# Altium footprint library PcbLib.PcbLib: 71 footprints (part 6 of 6)
Each footprint in its own frame and in the unit in brackets; x right, y up, seen from the top. Pads: shape width x height; smd on the part's side, far side on the other; paste and mask are expansions set on the pad; w line width, h text height; cw(c..) or ccw(c..) is an arc to the next point about the centre after c.
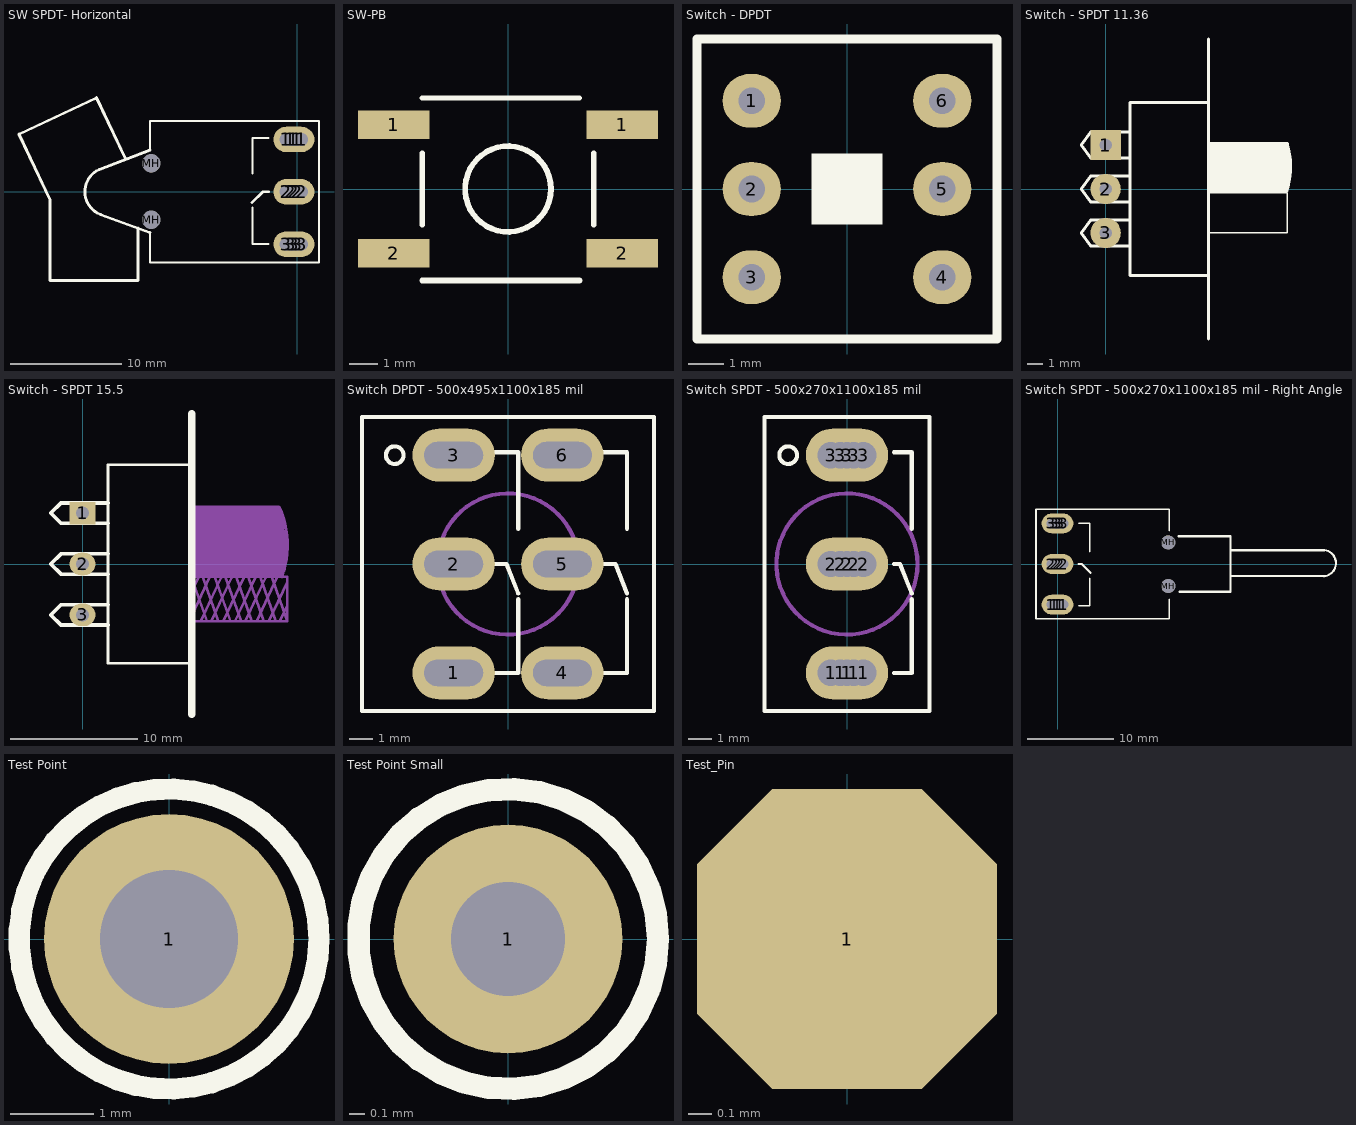
[diagram p5: the footprints below, top view; thin cyan lines are the x and y axes]

## SW SPDT- Horizontal [mil]
pads (17):
  round 90 hole 45: 1(-39.37,185.04) 1(-23.62,185.04) 1(0,185.04) 1(15.75,185.04) 2(-39.37,0) 2(-23.62,0) 2(0,0) 2(15.75,0) 3(-39.37,-185.04) 3(-23.62,-185.04) 3(0,-185.04) 3(15.75,-185.04)
  oval 140x90 hole 45: 1(-11.81,185) 2(-11.81,0) 3(-11.81,-185)
  round 63 hole 65: MH(-515.75,-98.43) MH(-515.75,100.36)
Top Overlay:
  lines w7: -519.68,-144.17 -519.68,-250 76.99,-250 76.99,250 -519.68,250 -519.68,147.73 ; -158.81,-55 -158.81,-185 -101.81,-185 ; -158.81,65 -158.81,190 -101.81,190
  lines w10: -700.13,78.6 ccw(c-664.37,0.46) -696.24,-79.34 ; -698.82,78.74 -519.68,147.73 ; -693.95,-80.52 -519.68,-144.17 ; -607,119 -709,333 -983,204 -873,-29 -873,-313 -562,-313 -562,-128 ; -160,-38 -121.81,0 -101.81,0
3D body "SW3dPS-300-sp1-j1-blk.STEP": height 379.35, standoff -125.15, extent -986.44,-312.76 17.06,336.12

## SW-PB [mm]
pads (4):
  rect 2.5x1 smd: 1(-3.992,2.25) 1(3.992,2.25) 2(-3.992,-2.25) 2(3.992,-2.25)
Top Overlay:
  circle w0.2: c0,0 r1.5
  lines w0.178: -2.997,3.175 2.503,3.175
  lines w0.2: -3,-1.25 -3,1.25 ; -2.997,-3.2 2.503,-3.2 ; 3,-1.25 3,1.25
3D body "SW3dPS-switch.STEP": height 5, standoff 0, extent -4.5,-3 4.5,3

## Switch - DPDT [mil]
pads (6):
  oval 65x60 hole 30: 1(-106.3,98.43) 2(-106.3,0) 3(-106.3,-98.43) 4(106.3,-98.43) 5(106.3,0) 6(106.3,98.43)
Top Overlay:
  rectangle: -39.37,-39.37 39.37,39.37
  lines w10: -167.32,-167.32 167.32,-167.32 167.32,167.32 -167.32,167.32 -167.32,-167.32
3D body "DPDT.STEP": height 559.06, standoff -129.92, extent -167.32,-167.32 167.32,167.32

## Switch - SPDT 11.36 [mm]
pads (3):
  rect 2x2 hole 0.8: 1(0,2.9)
  round 2 hole 0.8: 2(0,0) 3(0,-2.9)
Top Overlay:
  rectangle: 6.8,-0.2 11.982,2.998
  lines w0.1: 6.8,-2.9 11.99,-2.9 11.99,-0.282
  lines w0.2: 1.6,-3.75 -1,-3.75 -1.6,-2.9 -1,-2.05 1.6,-2.05 ; 1.6,-0.85 -1,-0.85 -1.6,0 -1,0.85 1.6,0.85 ; 1.6,2.05 -1,2.05 -1.6,2.9 -1,3.75 1.6,3.75 ; 6.8,-9.9 6.8,9.9 ; 6.8,-5.7 1.6,-5.7 1.6,5.7 6.8,5.7 ; 6.8,-0.2 11.932,-0.201 ccw(c6.8,1.48) 11.982,2.998 6.8,3
  lines w0.3: 12.01,0.47 12.01,2.5

## Switch - SPDT 15.5 [mil]
pads (3):
  rect 80x70 hole 40: 1(0,157.48)
  oval 80x70 hole 40: 2(0,0) 3(0,-157.48)
Top Overlay:
  lines w7.87: 338.58,-307.09 78.74,-307.09 78.74,307.09 338.58,307.09
  lines w11.81: 78.74,-188.98 -66.93,-188.98 -98.43,-157.48 -66.93,-125.98 78.74,-125.98 ; 78.74,-31.5 -66.93,-31.5 -98.43,0 -66.93,31.5 78.74,31.5 ; 78.74,125.98 -66.93,125.98 -98.43,157.48 -66.93,188.98 78.74,188.98
  lines w23.62: 338.58,-464.57 338.58,464.57
Mechanical 3:
  rectangle: 607.87,-23.62 622.44,-9.06
  rectangle: 596.06,158.66 612.6,168.11
  rectangle: 596.06,135.83 619.68,164.17
  rectangle: 596.06,105.51 624.41,135.83
  rectangle: 617.04,-14.17 627.56,22.44
  rectangle: 596.06,-40.38 617.04,12.2
  rectangle: 596.06,12.2 631.5,105.51
  rectangle: 338.58,-39.37 607.48,177.17
  lines w7.87: 331.5,-174.02 394.09,-39.37 ; 337.01,-39.37 385.43,-177.17 ; 338.58,-177.17 633.86,-177.17 ; 338.58,-83.86 359.45,-39.37 ; 338.58,-39.37 633.86,-39.37 633.86,-177.17 ; 338.58,177.17 607.48,177.17 ; 366.14,-177.17 428.74,-42.52 ; 371.65,-39.37 420.08,-177.17 ; 398.82,-177.17 461.42,-42.52 ; 409.84,-39.37 458.27,-177.17 ; 436.22,-177.17 498.82,-42.52 ; 442.52,-39.37 490.94,-177.17 ; 472.05,-177.17 534.65,-42.52 ; 475.98,-39.37 524.41,-177.17 ; 503.94,-177.17 566.54,-42.52 ; 512.99,-39.37 561.42,-177.17 ; 538.98,-177.17 601.57,-42.52 ; 550.39,-39.37 598.82,-177.17 ; 577.17,-177.17 633.86,-56.69 ; 585.43,-39.37 633.86,-177.17 ; 611.02,-177.17 633.86,-128.35
  lines w10: 608.82,176.89 cw(c338.58,57.87) 617.36,-39.48
3D body "spdt.STEP": height 356.3, standoff -157.48, extent -68.5,-462.01 659.84,462.01

## Switch DPDT - 500x495x1100x185 mil [mil]
pads (6):
  oval 140x90 hole 45 slot 100 at 0 deg: 1(-92.5,-185) 2(-92.5,0) 3(-92.5,185) 4(92.5,-185) 5(92.5,0) 6(92.5,185)
Top Overlay:
  circle w7: c-192.5,185 r15
  lines w7: -42.5,0 -2.5,0 17.5,-50 ; -27.5,190 17.5,190 17.5,60 ; -22.5,-185 17.5,-185 17.5,-60 ; 142.5,0 182.5,0 202.5,-50 ; 157.5,190 202.5,190 202.5,60 ; 162.5,-185 202.5,-185 202.5,-60 ; -248,-250 -248,250 248,250 248,-250 -248,-250
Mechanical 1:
  circle w7: c0,0 r120
3D body "SWITCH DPDT.STEP": height 1121.73, standoff -100, extent -246.5,-250 248.5,250

## Switch SPDT - 500x270x1100x185 mil [mil]
pads (15):
  round 40 hole 45: 1(-27.56,-185.04) 1(-11.81,-185.04) 1(11.81,-185.04) 1(27.56,-185.04) 2(-27.56,0) 2(-11.81,0) 2(11.81,0) 2(27.56,0) 3(-27.56,185.04) 3(-11.81,185.04) 3(11.81,185.04) 3(27.56,185.04)
  oval 140x90 hole 45: 1(0,-185) 2(0,0) 3(0,185)
Top Overlay:
  circle w7: c-100,185 r15
  lines w7: 79.72,-185 110,-185 110,-60 ; 79.72,0 90,0 110,-50 ; 79.72,190 110,190 110,60 ; -140,-250 140,-250 140,250 -140,250 -140,-250
Mechanical 1:
  circle w7: c0,0 r120
3D body "SWITCH SPDT.STEP": height 1126.73, standoff -95, extent -134.47,-250 135.53,250

## Switch SPDT - 500x270x1100x185 mil - Right Angle [mil]
pads (17):
  round 90 hole 45: 1(-27.56,-185.04) 1(-11.81,-185.04) 1(11.81,-185.04) 1(27.56,-185.04) 2(-27.56,0) 2(-11.81,0) 2(11.81,0) 2(27.56,0) 3(-27.56,185.04) 3(-11.81,185.04) 3(11.81,185.04) 3(27.56,185.04)
  oval 140x90 hole 45: 1(0,-185) 2(0,0) 3(0,185)
  round 63 hole 65: MH(503.94,-100.36) MH(503.94,98.43)
Top Overlay:
  lines w7: 96,-190 147,-190 147,-65 ; 97,185 147,185 147,55 ; 507.87,-160 507.87,-250 -98,-250 -98,250 507.87,250 507.87,151
  lines w10: 96,0 110,0 150,-40 ; 551,125.98 787.4,125.98 787.4,-125.98 555,-125.98 ; 787.4,62.99 1216.54,62.99 cw(c1208.66,3.94) 1213.81,-55.42 ; 791.34,-55.12 1213.78,-55.12
3D body "SW3dPS-Switch toggle NKK M2012SA2W30.STEP": height 317.31, standoff -164.5, extent -22.64,-256 1269.05,256

## Test Point [mm]
pads (1):
  round 3 hole 1.651: 1(0,0)
Top Overlay:
  circle w0.254: c0,0 r1.8
3D body "User Library-testpoint.step": height 5.65, standoff -3.23, extent -1.587,-1.585 1.587,1.59

## Test Point Small [mil]
pads (1):
  round 60 hole 30: 1(0,0)
Top Overlay:
  circle w5.91: c0,0 r39.37
3D body "SW3DPS-TEST POINT-DEFAULT.step": height 255.91, standoff -118.11, extent -19.68,-19.69 19.69,19.69

## Test_Pin [mil]
pads (1):
  oct 50x50 smd: 1(0,0)